# Altium integrated library Texas Instruments Power Management PWM Controller.IntLib: 1227 symbols (part 18 of 49)
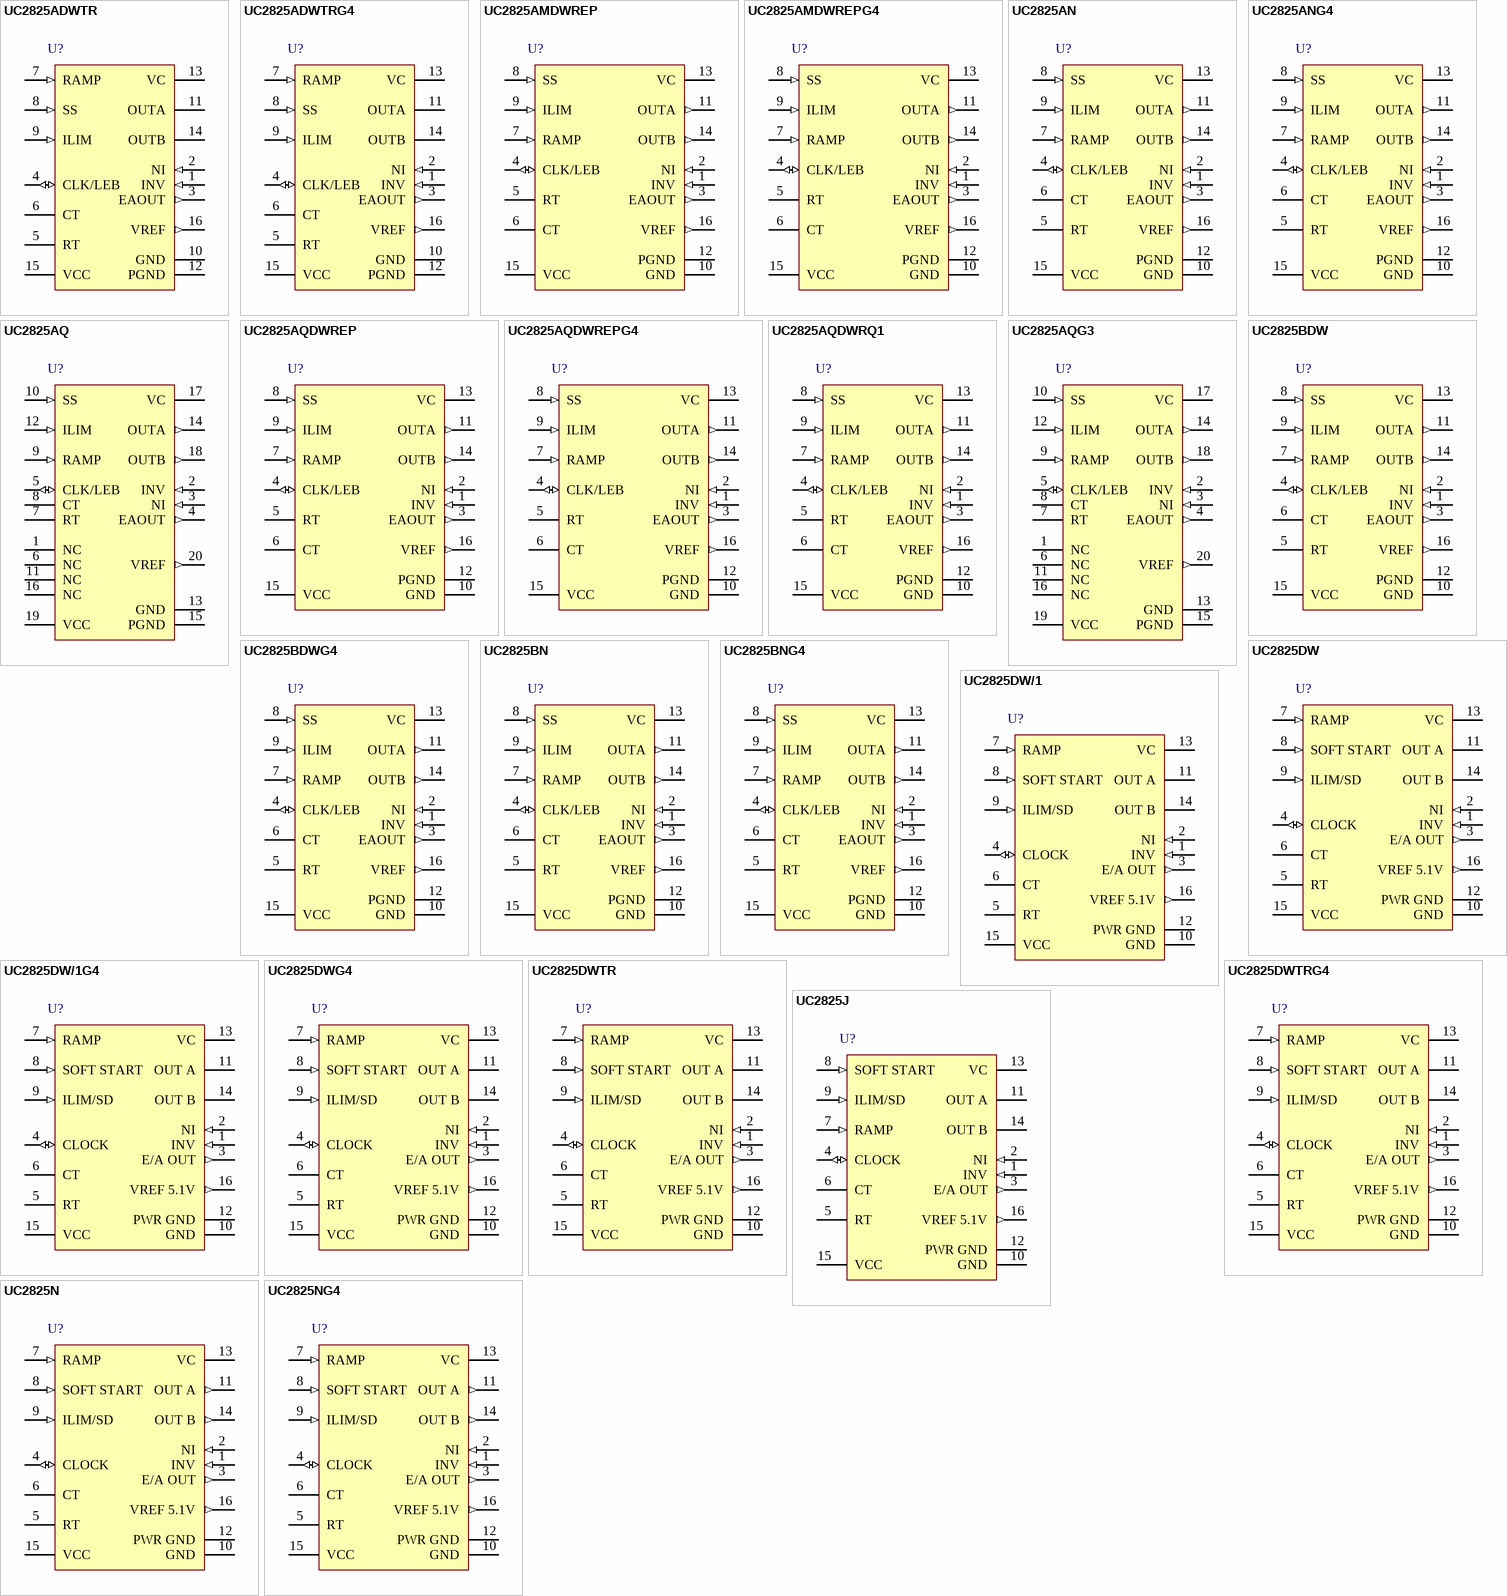
[diagram p60: symbols UC2825ADWTR to UC2825NG4]

## UC2825AN
designator U?
High-Speed PWM Controller with Current Control, 50 % Duty Cycle, -40 to +85 degC, 16-pin PDIP (N), Green (RoHS & no Sb/Br); PartNumber: UC2825AN; Manufacturer: Texas Instruments; Duty Cycle(Max)(%): 50; Frequency(Max)(kHz): 1000; Rating: Catalog; Regulated Outputs(#): 2; Topology: Boost, Flyback, Forward, Full-Bridge, Half-Bridge, Push-Pull; UVLO Thresholds On/Off(V): 16/10; DatasheetVersion: SLUS334E; PackageVersion: revE, Dec-2002; PackageReference: N16; PackageDescription: 16-Pin Plastic Dual-In-Line Package, Row Spacing 7.62 mm, Pitch 2.54 mm; Supplier 1: Digi-Key; Supplier Part Number 1: 296-11168-5-ND; Supplier 2: Newark; Supplier Part Number 2: 24C6758; Supplier 3: Mouser; Supplier Part Number 3: 595-UC2825AN; Control Method: Current; Eco-Plan: Green (RoHS & no Sb/Br); SubFamily: PWM Controller; Mounting Technology: Through Hole; Code_JEDEC: MS-001*; ComponentLink1Description: Datasheet; ComponentLink1URL: http://www.ti.com/general/docs/lit/getliterature.tsp?genericPartNumber=UC2825A&fileType=pdf
footprint N16 (DIP, 16-Leads, Row Spacing 7.62mm, Pitch 2.54mm, Body 19.3x6.4mm)
pins: 1 INV (in) "Inverting input to the error amplifier", 2 NI (in) "Non-inverting input to the error amplifier", 3 EAOUT (out) "Output of the error amplifier for compensation", 4 CLK/LEB (io) "Output of the internal oscillator", 5 RT "Timing resistor connection pin for oscillator frequency programming", 6 CT "Timing capacitor connection pin for oscillator frequency programming. The timing capacitor should be connected to the device ground using minimal trace length.", 7 RAMP (in) "Non-inverting input to the PWM comparator with 1.25-V internal input offset. In voltage mode operation, this serves as the input voltage feed-forward function by using the CT ramp. In peak current mode operation, this serves (See Datasheet)", 8 SS (in) "Soft-start input pin which also doubles as the maximum duty cycle clamp.", 9 ILIM (in) "Input to the current limit comparator", 10 GND (power) "Analog ground return pin", 11 OUTA (out) "High current totem pole output A of the on-chip drive stage.", 12 PGND (power) "Ground return pin for the output driver stage", 13 VC (power) "Power supply pin for the output stage. This pin should be bypassed with a 0.1-uF monolithic ceramic low ESL capacitor with minimal trace lengths.", 14 OUTB (out) "High current totem pole output B of the on-chip drive stage.", 15 VCC (power) "Power supply pin for the device. This pin should be bypassed with a 0.1-uF monolithic ceramic low ESL capacitor with minimal trace lengths", 16 VREF (out) "5.1-V reference. For stability, the reference should be bypassed with a 0.1-uF monolithic ceramic low ESL capacitor and minimal trace length to the ground plane."

## UC2825ANG4
designator U?
High-Speed PWM Controller with Current Control, 50 % Duty Cycle, -40 to +85 degC, 16-pin PDIP (N), Green (RoHS & no Sb/Br); PartNumber: UC2825ANG4; Manufacturer: Texas Instruments; Duty Cycle(Max)(%): 50; Frequency(Max)(kHz): 1000; Rating: Catalog; Regulated Outputs(#): 2; Topology: Boost, Flyback, Forward, Full-Bridge, Half-Bridge, Push-Pull; UVLO Thresholds On/Off(V): 16/10; DatasheetVersion: SLUS334E; PackageVersion: revE, Dec-2002; PackageReference: N16; PackageDescription: 16-Pin Plastic Dual-In-Line Package, Row Spacing 7.62 mm, Pitch 2.54 mm; Supplier 1: Digi-Key; Supplier Part Number 1: UC2825ANG4-ND; Supplier 2: Farnell; Supplier Part Number 2: 1234941; Supplier 3: Newark; Supplier Part Number 3: 13M3367; Supplier 4: Newark; Supplier Part Number 4: 67K8815; Supplier 5: Mouser; Supplier Part Number 5: 595-UC2825ANG4; Control Method: Current; Eco-Plan: Green (RoHS & no Sb/Br); SubFamily: PWM Controller; Mounting Technology: Through Hole; Code_JEDEC: MS-001*; ComponentLink1Description: Datasheet; ComponentLink1URL: http://www.ti.com/general/docs/lit/getliterature.tsp?genericPartNumber=UC2825A&fileType=pdf
footprint N16 (DIP, 16-Leads, Row Spacing 7.62mm, Pitch 2.54mm, Body 19.3x6.4mm)
pins: 1 INV (in) "Inverting input to the error amplifier", 2 NI (in) "Non-inverting input to the error amplifier", 3 EAOUT (out) "Output of the error amplifier for compensation", 4 CLK/LEB (io) "Output of the internal oscillator", 5 RT "Timing resistor connection pin for oscillator frequency programming", 6 CT "Timing capacitor connection pin for oscillator frequency programming. The timing capacitor should be connected to the device ground using minimal trace length.", 7 RAMP (in) "Non-inverting input to the PWM comparator with 1.25-V internal input offset. In voltage mode operation, this serves as the input voltage feed-forward function by using the CT ramp. In peak current mode operation, this serves (See Datasheet)", 8 SS (in) "Soft-start input pin which also doubles as the maximum duty cycle clamp.", 9 ILIM (in) "Input to the current limit comparator", 10 GND (power) "Analog ground return pin", 11 OUTA (out) "High current totem pole output A of the on-chip drive stage.", 12 PGND (power) "Ground return pin for the output driver stage", 13 VC (power) "Power supply pin for the output stage. This pin should be bypassed with a 0.1-uF monolithic ceramic low ESL capacitor with minimal trace lengths.", 14 OUTB (out) "High current totem pole output B of the on-chip drive stage.", 15 VCC (power) "Power supply pin for the device. This pin should be bypassed with a 0.1-uF monolithic ceramic low ESL capacitor with minimal trace lengths", 16 VREF (out) "5.1-V reference. For stability, the reference should be bypassed with a 0.1-uF monolithic ceramic low ESL capacitor and minimal trace length to the ground plane."

## UC2825AQ
designator U?
High-Speed PWM Controller with Current Control, 50 % Duty Cycle, -40 to +85 degC, 20-pin PLCC (FN), Green (RoHS & no Sb/Br); PartNumber: UC2825AQ; Manufacturer: Texas Instruments; Duty Cycle(Max)(%): 50; Frequency(Max)(kHz): 1000; Rating: Catalog; Regulated Outputs(#): 2; Topology: Boost, Flyback, Forward, Full-Bridge, Half-Bridge, Push-Pull; UVLO Thresholds On/Off(V): 16/10; DatasheetVersion: SLUS334E; PackageVersion: revB, Mar-1995; PackageReference: FN20; PackageDescription: 20-Pin Plastic Leaded Chip Carrier, 1.27 mm Pitch; Supplier 1: Digi-Key; Supplier Part Number 1: UC2825AQ-ND; Supplier 2: Newark; Supplier Part Number 2: 77C2906; Supplier 3: Mouser; Supplier Part Number 3: 595-UC2825AQ; Control Method: Current; Eco-Plan: Green (RoHS & no Sb/Br); SubFamily: PWM Controller; Mounting Technology: Surface Mount; Code_JEDEC: MS-018; ComponentLink1Description: Datasheet; ComponentLink1URL: http://www.ti.com/general/docs/lit/getliterature.tsp?genericPartNumber=UC2825A&fileType=pdf
footprint FN20_N (Leaded Chip Carrier, 20-Leads, Body 9x9mm, Pitch 1.27mm, IPC Medium Density)
footprint FN20_L (Leaded Chip Carrier, 20-Leads, Body 9x9mm, Pitch 1.27mm, IPC High Density)
footprint FN20_M (Leaded Chip Carrier, 20-Leads, Body 9x9mm, Pitch 1.27mm, IPC Low Density)
pins: 1 NC "No connection", 2 INV (in) "Inverting input to the error amplifier", 3 NI (in) "Non-inverting input to the error amplifier", 4 EAOUT (out) "Output of the error amplifier for compensation", 5 CLK/LEB (io) "Output of the internal oscillator", 6 NC "No connection", 7 RT "Timing resistor connection pin for oscillator frequency programming", 8 CT "Timing capacitor connection pin for oscillator frequency programming. The timing capacitor should be connected to the device ground using minimal trace length.", 9 RAMP (in) "Non-inverting input to the PWM comparator with 1.25-V internal input offset. In voltage mode operation, this serves as the input voltage feed-forward function by using the CT ramp. In peak current mode operation, this serves (See Datasheet)", 10 SS (in) "Soft-start input pin which also doubles as the maximum duty cycle clamp.", 11 NC "No connection", 12 ILIM (in) "Input to the current limit comparator", 13 GND (power) "Analog ground return pin", 14 OUTA (out) "High current totem pole output A of the on-chip drive stage.", 15 PGND (power) "Ground return pin for the output driver stage.", 16 NC "No connection", 17 VC (power) "Power supply pin for the output stage. This pin should be bypassed with a 0.1-uF monolithic ceramic low ESL capacitor with minimal trace lengths.", 18 OUTB (out) "High current totem pole output B of the on-chip drive stage.", 19 VCC (power) "Power supply pin for the device. This pin should be bypassed with a 0.1-uF monolithic ceramic low ESL capacitor with minimal trace lengths", 20 VREF (out) "5.1-V reference. For stability, the reference should be bypassed with a 0.1-uF monolithic ceramic low ESL capacitor and minimal trace length to the ground plane."

## UC2825AQDWREP
designator U?
High-Speed PWM Controller with Control, -55 to +125 degC, 16-pin SOIC (DW), Green (RoHS & no Sb/Br); PartNumber: UC2825AQDWREP; Manufacturer: Texas Instruments; Frequency(Max)(kHz): 1000; Rating: HiRel Enhanced Product; UVLO Thresholds On/Off(V): 9.6; DatasheetVersion: SGLS305D; PackageVersion: revG, Jan-2011; PackageReference: DW16; PackageDescription: 16-Pin Small Outline Integrated Circuit, 10.3 x 7.5 mm, Pitch 1.27 mm Pitch; Supplier 1: Digi-Key; Supplier Part Number 1: 296-19565-2-ND; Supplier 2: Digi-Key; Supplier Part Number 2: 296-19565-1-ND; Supplier 3: Digi-Key; Supplier Part Number 3: 296-19565-6-ND; Supplier 4: Newark; Supplier Part Number 4: 46M1392; Supplier 5: Mouser; Supplier Part Number 5: 595-UC2825AQDWREP; Eco-Plan: Green (RoHS & no Sb/Br); SubFamily: PWM Controller; Mounting Technology: Surface Mount; Code_JEDEC: MS-013-AA; ComponentLink1Description: Datasheet; ComponentLink1URL: http://www.ti.com/general/docs/lit/getliterature.tsp?genericPartNumber=UC2825A-EP&fileType=pdf
footprint DW16_N (SOIC, 16-Leads, Body 10.3x7.5mm, Pitch 1.27mm, IPC Medium Density)
footprint DW16_L (SOIC, 16-Leads, Body 10.3x7.5mm, Pitch 1.27mm, IPC High Density)
footprint DW16_M (SOIC, 16-Leads, Body 10.3x7.5mm, Pitch 1.27mm, IPC Low Density)
pins: 1 INV (in) "Inverting input to the error amplifier", 2 NI (in) "Noninverting input to the error amplifier", 3 EAOUT (out) "Output of the error amplifier for compensation", 4 CLK/LEB (io) "Clock/leading-edge blanking. Output of the internal oscillator", 5 RT "Resistor timing. Timing resistor connection for oscillator frequency programming", 6 CT "Capacitor timing. Timing capacitor connection for oscillator frequency programming. The timing capacitor should be connected to the device ground using minimal trace length", 7 RAMP (in) "Noninverting input to the PWM comparator, with 1.25-V internal input offset. In voltage-mode operation, this serves as the input voltage feed-forward function by using the CT ramp.In peak current mode operation,this serves (See Datasheet)", 8 SS (in) "Soft-start. SS also doubles as the maximum duty cycle clamp", 9 ILIM (in) "Input to the current-limit comparator", 10 GND (power) "Analog ground return", 11 OUTA (out) "High-current totem-pole output A of the on-chip drive stage", 12 PGND (power) "Ground return for the output driver stage", 13 VC (power) "Power-supply for the output stage. This pin should be bypassed with a 0.1-uF monolithic ceramic low-ESL capacitor with minimal trace lengths", 14 OUTB (out) "High-current totem-pole output B of the on-chip drive stage", 15 VCC (power) "Power supply for the device. This pin should be bypassed with a 0.1-uF monolithic ceramic low-ESL capacitor with minimal trace lengths", 16 VREF (out) "5.1-V reference. For stability, the reference should be bypassed with a 0.1-uF monolithic ceramic low-ESL capacitor and minimal trace length to the ground plane"

## UC2825AQDWREPG4
designator U?
High-Speed PWM Controller with Control, -55 to +125 degC, 16-pin SOIC (DW), Green (RoHS & no Sb/Br); PartNumber: UC2825AQDWREPG4; Manufacturer: Texas Instruments; Frequency(Max)(kHz): 1000; Rating: HiRel Enhanced Product; UVLO Thresholds On/Off(V): 9.6; DatasheetVersion: SGLS305D; PackageVersion: revG, Jan-2011; PackageReference: DW16; PackageDescription: 16-Pin Small Outline Integrated Circuit, 10.3 x 7.5 mm, Pitch 1.27 mm Pitch; Supplier 1: Digi-Key; Supplier Part Number 1: UC2825AQDWREPG4-ND; Supplier 2: Newark; Supplier Part Number 2: 55R7751; Supplier 3: Mouser; Supplier Part Number 3: 595-UC2825AQDWREPG4; Eco-Plan: Green (RoHS & no Sb/Br); SubFamily: PWM Controller; Mounting Technology: Surface Mount; Code_JEDEC: MS-013-AA; ComponentLink1Description: Datasheet; ComponentLink1URL: http://www.ti.com/general/docs/lit/getliterature.tsp?genericPartNumber=UC2825A-EP&fileType=pdf
footprint DW16_N (SOIC, 16-Leads, Body 10.3x7.5mm, Pitch 1.27mm, IPC Medium Density)
footprint DW16_L (SOIC, 16-Leads, Body 10.3x7.5mm, Pitch 1.27mm, IPC High Density)
footprint DW16_M (SOIC, 16-Leads, Body 10.3x7.5mm, Pitch 1.27mm, IPC Low Density)
pins: 1 INV (in) "Inverting input to the error amplifier", 2 NI (in) "Noninverting input to the error amplifier", 3 EAOUT (out) "Output of the error amplifier for compensation", 4 CLK/LEB (io) "Clock/leading-edge blanking. Output of the internal oscillator", 5 RT "Resistor timing. Timing resistor connection for oscillator frequency programming", 6 CT "Capacitor timing. Timing capacitor connection for oscillator frequency programming. The timing capacitor should be connected to the device ground using minimal trace length", 7 RAMP (in) "Noninverting input to the PWM comparator, with 1.25-V internal input offset. In voltage-mode operation, this serves as the input voltage feed-forward function by using the CT ramp.In peak current mode operation,this serves (See Datasheet)", 8 SS (in) "Soft-start. SS also doubles as the maximum duty cycle clamp", 9 ILIM (in) "Input to the current-limit comparator", 10 GND (power) "Analog ground return", 11 OUTA (out) "High-current totem-pole output A of the on-chip drive stage", 12 PGND (power) "Ground return for the output driver stage", 13 VC (power) "Power-supply for the output stage. This pin should be bypassed with a 0.1-uF monolithic ceramic low-ESL capacitor with minimal trace lengths", 14 OUTB (out) "High-current totem-pole output B of the on-chip drive stage", 15 VCC (power) "Power supply for the device. This pin should be bypassed with a 0.1-uF monolithic ceramic low-ESL capacitor with minimal trace lengths", 16 VREF (out) "5.1-V reference. For stability, the reference should be bypassed with a 0.1-uF monolithic ceramic low-ESL capacitor and minimal trace length to the ground plane"

## UC2825AQDWRQ1
designator U?
Automotive Catalog High-Speed PWM Controller with Current Control, 50 % Duty Cycle, -40 to +125 degC, 16-pin SOIC (DW), Green (RoHS & no Sb/Br); PartNumber: UC2825AQDWRQ1; Manufacturer: Texas Instruments; Duty Cycle(Max)(%): 50; Frequency(Max)(kHz): 1000; Regulated Outputs(#): 2; Topology: Boost, Flyback, Forward, Full-Bridge, Half-Bridge, Push-Pull; UVLO Thresholds On/Off(V): 9.2/8.4; DatasheetVersion: SLUS781; PackageVersion: revG, Jan-2011; PackageReference: DW16; PackageDescription: 16-Pin Small Outline Integrated Circuit, 10.3 x 7.5 mm, Pitch 1.27 mm Pitch; Supplier 1: Digi-Key; Supplier Part Number 1: 296-24109-2-ND; Supplier 2: Digi-Key; Supplier Part Number 2: 296-24109-1-ND; Supplier 3: Digi-Key; Supplier Part Number 3: 296-24109-6-ND; Supplier 4: Newark; Supplier Part Number 4: 73M8176; Supplier 5: Mouser; Supplier Part Number 5: 595-UC2825AQDWRQ1; Control Method: Current; Eco-Plan: Green (RoHS & no Sb/Br); Rating: Automotive; SubFamily: PWM Controller; Mounting Technology: Surface Mount; Code_JEDEC: MS-013-AA; ComponentLink1Description: Datasheet; ComponentLink1URL: http://www.ti.com/general/docs/lit/getliterature.tsp?genericPartNumber=UC2825A-Q1&fileType=pdf
footprint DW16_N (SOIC, 16-Leads, Body 10.3x7.5mm, Pitch 1.27mm, IPC Medium Density)
footprint DW16_L (SOIC, 16-Leads, Body 10.3x7.5mm, Pitch 1.27mm, IPC High Density)
footprint DW16_M (SOIC, 16-Leads, Body 10.3x7.5mm, Pitch 1.27mm, IPC Low Density)
pins: 1 INV (in) "Inverting input to the error amplifier", 2 NI (in) "Noninverting input to the error amplifier", 3 EAOUT (out) "Output of the error amplifier for compensation", 4 CLK/LEB (io) "Output of the internal oscillator", 5 RT "Timing resistor connection for oscillator frequency programming", 6 CT "Timing capacitor connection for oscillator frequency programming. The timing capacitor should be connected to the device ground using minimal trace length.", 7 RAMP (in) "Noninverting input to the PWM comparator with 1.25-V internal input offset. In voltage-mode operation, this serves as the input voltage feed-forward function by using the CT ramp. In peak current-mode operation, this serves (See Datasheet)", 8 SS (in) "Soft-start input and the maximum duty cycle clamp", 9 ILIM (in) "Input to the current limit comparator", 10 GND (power) "Analog ground return", 11 OUTA (out) "High-current totem-pole output A of the on-chip drive stage", 12 PGND (power) "Ground return for the output driver stage", 13 VC (power) "Power supply for the output stage. This pin should be bypassed with a 0.1-uF monolithic ceramic low ESL capacitor with minimal trace lengths.", 14 OUTB (out) "High-current totem-pole output B of the on-chip drive stage", 15 VCC (power) "Power supply for the device. This pin should be bypassed with a 0.1-uF monolithic ceramic low ESL capacitor with minimal trace lengths", 16 VREF (out) "5.1-V reference. For stability, the reference should be bypassed with a 0.1-uF monolithic ceramic low ESL capacitor and minimal trace length to the ground plane."

## UC2825AQG3
designator U?
High-Speed PWM Controller with Current Control, 50 % Duty Cycle, -40 to +85 degC, 20-pin PLCC (FN), Green (RoHS & no Sb/Br); PartNumber: UC2825AQG3; Manufacturer: Texas Instruments; Duty Cycle(Max)(%): 50; Frequency(Max)(kHz): 1000; Rating: Catalog; Regulated Outputs(#): 2; Topology: Boost, Flyback, Forward, Full-Bridge, Half-Bridge, Push-Pull; UVLO Thresholds On/Off(V): 16/10; DatasheetVersion: SLUS334E; PackageVersion: revB, Mar-1995; PackageReference: FN20; PackageDescription: 20-Pin Plastic Leaded Chip Carrier, 1.27 mm Pitch; Supplier 1: Digi-Key; Supplier Part Number 1: UC2825AQG3-ND; Supplier 2: Newark; Supplier Part Number 2: 81K4514; Supplier 3: Mouser; Supplier Part Number 3: 595-UC2825AQG3; Control Method: Current; Eco-Plan: Green (RoHS & no Sb/Br); SubFamily: PWM Controller; Mounting Technology: Surface Mount; Code_JEDEC: MS-018; ComponentLink1Description: Datasheet; ComponentLink1URL: http://www.ti.com/general/docs/lit/getliterature.tsp?genericPartNumber=UC2825A&fileType=pdf
footprint FN20_N (Leaded Chip Carrier, 20-Leads, Body 9x9mm, Pitch 1.27mm, IPC Medium Density)
footprint FN20_L (Leaded Chip Carrier, 20-Leads, Body 9x9mm, Pitch 1.27mm, IPC High Density)
footprint FN20_M (Leaded Chip Carrier, 20-Leads, Body 9x9mm, Pitch 1.27mm, IPC Low Density)
pins: 1 NC "No connection", 2 INV (in) "Inverting input to the error amplifier", 3 NI (in) "Non-inverting input to the error amplifier", 4 EAOUT (out) "Output of the error amplifier for compensation", 5 CLK/LEB (io) "Output of the internal oscillator", 6 NC "No connection", 7 RT "Timing resistor connection pin for oscillator frequency programming", 8 CT "Timing capacitor connection pin for oscillator frequency programming. The timing capacitor should be connected to the device ground using minimal trace length.", 9 RAMP (in) "Non-inverting input to the PWM comparator with 1.25-V internal input offset. In voltage mode operation, this serves as the input voltage feed-forward function by using the CT ramp. In peak current mode operation, this serves (See Datasheet)", 10 SS (in) "Soft-start input pin which also doubles as the maximum duty cycle clamp.", 11 NC "No connection", 12 ILIM (in) "Input to the current limit comparator", 13 GND (power) "Analog ground return pin", 14 OUTA (out) "High current totem pole output A of the on-chip drive stage.", 15 PGND (power) "Ground return pin for the output driver stage.", 16 NC "No connection", 17 VC (power) "Power supply pin for the output stage. This pin should be bypassed with a 0.1-uF monolithic ceramic low ESL capacitor with minimal trace lengths.", 18 OUTB (out) "High current totem pole output B of the on-chip drive stage.", 19 VCC (power) "Power supply pin for the device. This pin should be bypassed with a 0.1-uF monolithic ceramic low ESL capacitor with minimal trace lengths", 20 VREF (out) "5.1-V reference. For stability, the reference should be bypassed with a 0.1-uF monolithic ceramic low ESL capacitor and minimal trace length to the ground plane."

## UC2825BDW
designator U?
High-Speed PWM Controller with Current Control, 50 % Duty Cycle, -40 to +85 degC, 16-pin SOIC (DW), Green (RoHS & no Sb/Br); PartNumber: UC2825BDW; Manufacturer: Texas Instruments; Duty Cycle(Max)(%): 50; Frequency(Max)(kHz): 1000; Rating: Military; Regulated Outputs(#): 2; Topology: Boost, Flyback, Forward, Full-Bridge, Half-Bridge, Push-Pull; UVLO Thresholds On/Off(V): 9.2/8.4; DatasheetVersion: SLUS334E; PackageVersion: revG, Jan-2011; PackageReference: DW16; PackageDescription: 16-Pin Small Outline Integrated Circuit, 10.3 x 7.5 mm, Pitch 1.27 mm Pitch; Supplier 1: Digi-Key; Supplier Part Number 1: 296-2491-5-ND; Supplier 2: Newark; Supplier Part Number 2: 77C2908; Supplier 3: Mouser; Supplier Part Number 3: 595-UC2825BDW; Control Method: Current; Eco-Plan: Green (RoHS & no Sb/Br); SubFamily: PWM Controller; Mounting Technology: Surface Mount; Code_JEDEC: MS-013-AA; ComponentLink1Description: Datasheet; ComponentLink1URL: http://www.ti.com/general/docs/lit/getliterature.tsp?genericPartNumber=UC2825B&fileType=pdf
footprint DW16_N (SOIC, 16-Leads, Body 10.3x7.5mm, Pitch 1.27mm, IPC Medium Density)
footprint DW16_L (SOIC, 16-Leads, Body 10.3x7.5mm, Pitch 1.27mm, IPC High Density)
footprint DW16_M (SOIC, 16-Leads, Body 10.3x7.5mm, Pitch 1.27mm, IPC Low Density)
pins: 1 INV (in) "Inverting input to the error amplifier.", 2 NI (in) "Non-inverting input to the error amplifier.", 3 EAOUT (out) "Output of the error amplifier for compensation.", 4 CLK/LEB (io) "Output of the internal oscillator.", 5 RT "Timing resistor connection pin for oscillator frequency programming.", 6 CT "Timing capacitor connection pin for oscillator frequency programming. The timing capacitor should be connected to the device ground using minimal trace length.", 7 RAMP (in) "Non-inverting input to the PWM comparator with 1.25-V internal input offset. In voltage mode operation, this serves as the input voltage feed-forward function by using the CT ramp. In peak current mode operation, this serves (See Datasheet)", 8 SS (in) "Soft-start input pin which also doubles as the maximum duty cycle clamp.", 9 ILIM (in) "Input to the current limit comparator.", 10 GND (power) "Analog ground return pin.", 11 OUTA (out) "High current totem pole output A of the on-chip drive stage.", 12 PGND (power) "Ground return pin for the output driver stage.", 13 VC (power) "Power supply pin for the output stage. This pin should be bypassed with a 0.1-uF monolithic ceramic low ESL capacitor with minimal trace lengths.", 14 OUTB (out) "High current totem pole output B of the on-chip drive stage.", 15 VCC (power) "Power supply pin for the device. This pin should be bypassed with a 0.1-uF monolithic ceramic low ESL capacitor with minimal trace lengths.", 16 VREF (out) "5.1-V reference. For stability, the reference should be bypassed with a 0.1-uF monolithic ceramic low ESL capacitor and minimal trace length to the ground plane."

## UC2825BDWG4
designator U?
High-Speed PWM Controller with Current Control, 50 % Duty Cycle, -40 to +85 degC, 16-pin SOIC (DW), Green (RoHS & no Sb/Br); PartNumber: UC2825BDWG4; Manufacturer: Texas Instruments; Duty Cycle(Max)(%): 50; Frequency(Max)(kHz): 1000; Rating: Military; Regulated Outputs(#): 2; Topology: Boost, Flyback, Forward, Full-Bridge, Half-Bridge, Push-Pull; UVLO Thresholds On/Off(V): 9.2/8.4; DatasheetVersion: SLUS334E; PackageVersion: revG, Jan-2011; PackageReference: DW16; PackageDescription: 16-Pin Small Outline Integrated Circuit, 10.3 x 7.5 mm, Pitch 1.27 mm Pitch; Supplier 1: Digi-Key; Supplier Part Number 1: UC2825BDWG4-ND; Supplier 2: Newark; Supplier Part Number 2: 73K9693; Supplier 3: Mouser; Supplier Part Number 3: 595-UC2825BDWG4; Control Method: Current; Eco-Plan: Green (RoHS & no Sb/Br); SubFamily: PWM Controller; Mounting Technology: Surface Mount; Code_JEDEC: MS-013-AA; ComponentLink1Description: Datasheet; ComponentLink1URL: http://www.ti.com/general/docs/lit/getliterature.tsp?genericPartNumber=UC2825B&fileType=pdf
footprint DW16_N (SOIC, 16-Leads, Body 10.3x7.5mm, Pitch 1.27mm, IPC Medium Density)
footprint DW16_L (SOIC, 16-Leads, Body 10.3x7.5mm, Pitch 1.27mm, IPC High Density)
footprint DW16_M (SOIC, 16-Leads, Body 10.3x7.5mm, Pitch 1.27mm, IPC Low Density)
pins: 1 INV (in) "Inverting input to the error amplifier.", 2 NI (in) "Non-inverting input to the error amplifier.", 3 EAOUT (out) "Output of the error amplifier for compensation.", 4 CLK/LEB (io) "Output of the internal oscillator.", 5 RT "Timing resistor connection pin for oscillator frequency programming.", 6 CT "Timing capacitor connection pin for oscillator frequency programming. The timing capacitor should be connected to the device ground using minimal trace length.", 7 RAMP (in) "Non-inverting input to the PWM comparator with 1.25-V internal input offset. In voltage mode operation, this serves as the input voltage feed-forward function by using the CT ramp. In peak current mode operation, this serves (See Datasheet)", 8 SS (in) "Soft-start input pin which also doubles as the maximum duty cycle clamp.", 9 ILIM (in) "Input to the current limit comparator.", 10 GND (power) "Analog ground return pin.", 11 OUTA (out) "High current totem pole output A of the on-chip drive stage.", 12 PGND (power) "Ground return pin for the output driver stage.", 13 VC (power) "Power supply pin for the output stage. This pin should be bypassed with a 0.1-uF monolithic ceramic low ESL capacitor with minimal trace lengths.", 14 OUTB (out) "High current totem pole output B of the on-chip drive stage.", 15 VCC (power) "Power supply pin for the device. This pin should be bypassed with a 0.1-uF monolithic ceramic low ESL capacitor with minimal trace lengths.", 16 VREF (out) "5.1-V reference. For stability, the reference should be bypassed with a 0.1-uF monolithic ceramic low ESL capacitor and minimal trace length to the ground plane."

## UC2825BN
designator U?
High-Speed PWM Controller with Current Control, 50 % Duty Cycle, -40 to +85 degC, 16-pin PDIP (N), Green (RoHS & no Sb/Br); PartNumber: UC2825BN; Manufacturer: Texas Instruments; Duty Cycle(Max)(%): 50; Frequency(Max)(kHz): 1000; Rating: Military; Regulated Outputs(#): 2; Topology: Boost, Flyback, Forward, Full-Bridge, Half-Bridge, Push-Pull; UVLO Thresholds On/Off(V): 9.2/8.4; DatasheetVersion: SLUS334E; PackageVersion: revE, Dec-2002; PackageReference: N16; PackageDescription: 16-Pin Plastic Dual-In-Line Package, Row Spacing 7.62 mm, Pitch 2.54 mm; Supplier 1: Digi-Key; Supplier Part Number 1: 296-11169-5-ND; Supplier 2: Newark; Supplier Part Number 2: 77C2910; Supplier 3: Mouser; Supplier Part Number 3: 595-UC2825BN; Control Method: Current; Eco-Plan: Green (RoHS & no Sb/Br); SubFamily: PWM Controller; Mounting Technology: Through Hole; Code_JEDEC: MS-001*; ComponentLink1Description: Datasheet; ComponentLink1URL: http://www.ti.com/general/docs/lit/getliterature.tsp?genericPartNumber=UC2825B&fileType=pdf
footprint N16 (DIP, 16-Leads, Row Spacing 7.62mm, Pitch 2.54mm, Body 19.3x6.4mm)
pins: 1 INV (in) "Inverting input to the error amplifier", 2 NI (in) "Non-inverting input to the error amplifier", 3 EAOUT (out) "Output of the error amplifier for compensation", 4 CLK/LEB (io) "Output of the internal oscillator", 5 RT "Timing resistor connection pin for oscillator frequency programming", 6 CT "Timing capacitor connection pin for oscillator frequency programming. The timing capacitor should be connected to the device ground using minimal trace length.", 7 RAMP (in) "Non-inverting input to the PWM comparator with 1.25-V internal input offset. In voltage mode operation, this serves as the input voltage feed-forward function by using the CT ramp. In peak current mode operation, this serves (See Datasheet)", 8 SS (in) "Soft-start input pin which also doubles as the maximum duty cycle clamp.", 9 ILIM (in) "Input to the current limit comparator", 10 GND (power) "Analog ground return pin", 11 OUTA (out) "High current totem pole output A of the on-chip drive stage.", 12 PGND (power) "Ground return pin for the output driver stage", 13 VC (power) "Power supply pin for the output stage. This pin should be bypassed with a 0.1-uF monolithic ceramic low ESL capacitor with minimal trace lengths.", 14 OUTB (out) "High current totem pole output B of the on-chip drive stage.", 15 VCC (power) "Power supply pin for the device. This pin should be bypassed with a 0.1-uF monolithic ceramic low ESL capacitor with minimal trace lengths", 16 VREF (out) "5.1-V reference. For stability, the reference should be bypassed with a 0.1-uF monolithic ceramic low ESL capacitor and minimal trace length to the ground plane."

## UC2825BNG4
designator U?
High-Speed PWM Controller with Current Control, 50 % Duty Cycle, -40 to +85 degC, 16-pin PDIP (N), Green (RoHS & no Sb/Br); PartNumber: UC2825BNG4; Manufacturer: Texas Instruments; Duty Cycle(Max)(%): 50; Frequency(Max)(kHz): 1000; Rating: Military; Regulated Outputs(#): 2; Topology: Boost, Flyback, Forward, Full-Bridge, Half-Bridge, Push-Pull; UVLO Thresholds On/Off(V): 9.2/8.4; DatasheetVersion: SLUS334E; PackageVersion: revE, Dec-2002; PackageReference: N16; PackageDescription: 16-Pin Plastic Dual-In-Line Package, Row Spacing 7.62 mm, Pitch 2.54 mm; Supplier 1: Digi-Key; Supplier Part Number 1: UC2825BNG4-ND; Supplier 2: Newark; Supplier Part Number 2: 58K7103; Supplier 3: Mouser; Supplier Part Number 3: 595-UC2825BNG4; Control Method: Current; Eco-Plan: Green (RoHS & no Sb/Br); SubFamily: PWM Controller; Mounting Technology: Through Hole; Code_JEDEC: MS-001*; ComponentLink1Description: Datasheet; ComponentLink1URL: http://www.ti.com/general/docs/lit/getliterature.tsp?genericPartNumber=UC2825B&fileType=pdf
footprint N16 (DIP, 16-Leads, Row Spacing 7.62mm, Pitch 2.54mm, Body 19.3x6.4mm)
pins: 1 INV (in) "Inverting input to the error amplifier", 2 NI (in) "Non-inverting input to the error amplifier", 3 EAOUT (out) "Output of the error amplifier for compensation", 4 CLK/LEB (io) "Output of the internal oscillator", 5 RT "Timing resistor connection pin for oscillator frequency programming", 6 CT "Timing capacitor connection pin for oscillator frequency programming. The timing capacitor should be connected to the device ground using minimal trace length.", 7 RAMP (in) "Non-inverting input to the PWM comparator with 1.25-V internal input offset. In voltage mode operation, this serves as the input voltage feed-forward function by using the CT ramp. In peak current mode operation, this serves (See Datasheet)", 8 SS (in) "Soft-start input pin which also doubles as the maximum duty cycle clamp.", 9 ILIM (in) "Input to the current limit comparator", 10 GND (power) "Analog ground return pin", 11 OUTA (out) "High current totem pole output A of the on-chip drive stage.", 12 PGND (power) "Ground return pin for the output driver stage", 13 VC (power) "Power supply pin for the output stage. This pin should be bypassed with a 0.1-uF monolithic ceramic low ESL capacitor with minimal trace lengths.", 14 OUTB (out) "High current totem pole output B of the on-chip drive stage.", 15 VCC (power) "Power supply pin for the device. This pin should be bypassed with a 0.1-uF monolithic ceramic low ESL capacitor with minimal trace lengths", 16 VREF (out) "5.1-V reference. For stability, the reference should be bypassed with a 0.1-uF monolithic ceramic low ESL capacitor and minimal trace length to the ground plane."

## UC2825DW
designator U?
High Speed PWM Controller with Current Control, 50 % Duty Cycle, -40 to +85 degC, 16-pin SOIC (DW), Green (RoHS & no Sb/Br); PartNumber: UC2825DW; Manufacturer: Texas Instruments; Duty Cycle(Max)(%): 50; Frequency(Max)(kHz): 1000; Rating: Catalog; Regulated Outputs(#): 2; Topology: Boost, Flyback, Forward, Full-Bridge, Half-Bridge, Push-Pull; UVLO Thresholds On/Off(V): 9.2/8.4; DatasheetVersion: SLUS235A; PackageVersion: revG, Jan-2011; PackageReference: DW16; PackageDescription: 16-Pin Small Outline Integrated Circuit, 10.3 x 7.5 mm, Pitch 1.27 mm Pitch; Supplier 1: Digi-Key; Supplier Part Number 1: 296-11170-5-ND; Supplier 2: Farnell; Supplier Part Number 2: 4395335; Supplier 3: Newark; Supplier Part Number 3: 77C2911; Supplier 4: Mouser; Supplier Part Number 4: 595-UC2825DW; Control Method: Current; Eco-Plan: Green (RoHS & no Sb/Br); SubFamily: PWM Controller; Mounting Technology: Surface Mount; Code_JEDEC: MS-013-AA; ComponentLink1Description: Datasheet; ComponentLink1URL: http://www.ti.com/general/docs/lit/getliterature.tsp?genericPartNumber=UC2825&fileType=pdf
footprint DW16_N (SOIC, 16-Leads, Body 10.3x7.5mm, Pitch 1.27mm, IPC Medium Density)
footprint DW16_L (SOIC, 16-Leads, Body 10.3x7.5mm, Pitch 1.27mm, IPC High Density)
footprint DW16_M (SOIC, 16-Leads, Body 10.3x7.5mm, Pitch 1.27mm, IPC Low Density)
pins: 1 INV (in), 2 NI (in), 3 E/A OUT (out), 4 CLOCK (io), 5 RT, 6 CT, 7 RAMP (in), 8 SOFT START (in), 9 ILIM/SD (in), 10 GND (power), 11 OUT A (hiz), 12 PWR GND (power), 13 VC (power), 14 OUT B (hiz), 15 VCC (power), 16 VREF 5.1V (out)

## UC2825DW/1
designator U?
High Speed PWM Controller with Current Control, 50 % Duty Cycle, -40 to +85 degC, 16-pin SOIC (DW), Green (RoHS & no Sb/Br); PartNumber: UC2825DW/1; Manufacturer: Texas Instruments; Duty Cycle(Max)(%): 50; Frequency(Max)(kHz): 1000; Rating: Catalog; Regulated Outputs(#): 2; Topology: Boost, Flyback, Forward, Full-Bridge, Half-Bridge, Push-Pull; UVLO Thresholds On/Off(V): 9.2/8.4; DatasheetVersion: SLUS235A; PackageVersion: revG, Jan-2011; PackageReference: DW16; PackageDescription: 16-Pin Small Outline Integrated Circuit, 10.3 x 7.5 mm, Pitch 1.27 mm Pitch; Supplier 1: Mouser; Supplier Part Number 1: N/A; Control Method: Current; Eco-Plan: Green (RoHS & no Sb/Br); SubFamily: PWM Controller; Mounting Technology: Surface Mount; Code_JEDEC: MS-013-AA; ComponentLink1Description: Datasheet; ComponentLink1URL: http://www.ti.com/general/docs/lit/getliterature.tsp?genericPartNumber=UC2825&fileType=pdf
footprint DW16_N (SOIC, 16-Leads, Body 10.3x7.5mm, Pitch 1.27mm, IPC Medium Density)
footprint DW16_L (SOIC, 16-Leads, Body 10.3x7.5mm, Pitch 1.27mm, IPC High Density)
footprint DW16_M (SOIC, 16-Leads, Body 10.3x7.5mm, Pitch 1.27mm, IPC Low Density)
pins: 1 INV (in), 2 NI (in), 3 E/A OUT (out), 4 CLOCK (io), 5 RT, 6 CT, 7 RAMP (in), 8 SOFT START (in), 9 ILIM/SD (in), 10 GND (power), 11 OUT A (hiz), 12 PWR GND (power), 13 VC (power), 14 OUT B (hiz), 15 VCC (power), 16 VREF 5.1V (out)

## UC2825DW/1G4
designator U?
High Speed PWM Controller with Current Control, 50 % Duty Cycle, -40 to +85 degC, 16-pin SOIC (DW), Green (RoHS & no Sb/Br); PartNumber: UC2825DW/1G4; Manufacturer: Texas Instruments; Duty Cycle(Max)(%): 50; Frequency(Max)(kHz): 1000; Rating: Catalog; Regulated Outputs(#): 2; Topology: Boost, Flyback, Forward, Full-Bridge, Half-Bridge, Push-Pull; UVLO Thresholds On/Off(V): 9.2/8.4; DatasheetVersion: SLUS235A; PackageVersion: revG, Jan-2011; PackageReference: DW16; PackageDescription: 16-Pin Small Outline Integrated Circuit, 10.3 x 7.5 mm, Pitch 1.27 mm Pitch; Supplier 1: Mouser; Supplier Part Number 1: N/A; Control Method: Current; Eco-Plan: Green (RoHS & no Sb/Br); SubFamily: PWM Controller; Mounting Technology: Surface Mount; Code_JEDEC: MS-013-AA; ComponentLink1Description: Datasheet; ComponentLink1URL: http://www.ti.com/general/docs/lit/getliterature.tsp?genericPartNumber=UC2825&fileType=pdf
footprint DW16_N (SOIC, 16-Leads, Body 10.3x7.5mm, Pitch 1.27mm, IPC Medium Density)
footprint DW16_L (SOIC, 16-Leads, Body 10.3x7.5mm, Pitch 1.27mm, IPC High Density)
footprint DW16_M (SOIC, 16-Leads, Body 10.3x7.5mm, Pitch 1.27mm, IPC Low Density)
pins: 1 INV (in), 2 NI (in), 3 E/A OUT (out), 4 CLOCK (io), 5 RT, 6 CT, 7 RAMP (in), 8 SOFT START (in), 9 ILIM/SD (in), 10 GND (power), 11 OUT A (hiz), 12 PWR GND (power), 13 VC (power), 14 OUT B (hiz), 15 VCC (power), 16 VREF 5.1V (out)

## UC2825DWG4
designator U?
High Speed PWM Controller with Current Control, 50 % Duty Cycle, -40 to +85 degC, 16-pin SOIC (DW), Green (RoHS & no Sb/Br); PartNumber: UC2825DWG4; Manufacturer: Texas Instruments; Duty Cycle(Max)(%): 50; Frequency(Max)(kHz): 1000; Rating: Catalog; Regulated Outputs(#): 2; Topology: Boost, Flyback, Forward, Full-Bridge, Half-Bridge, Push-Pull; UVLO Thresholds On/Off(V): 9.2/8.4; DatasheetVersion: SLUS235A; PackageVersion: revG, Jan-2011; PackageReference: DW16; PackageDescription: 16-Pin Small Outline Integrated Circuit, 10.3 x 7.5 mm, Pitch 1.27 mm Pitch; Supplier 1: Digi-Key; Supplier Part Number 1: UC2825DWG4-ND; Supplier 2: Farnell; Supplier Part Number 2: 1234677; Supplier 3: Newark; Supplier Part Number 3: 13M3368; Supplier 4: Newark; Supplier Part Number 4: 80K3529; Supplier 5: Mouser; Supplier Part Number 5: 595-UC2825DWG4; Control Method: Current; Eco-Plan: Green (RoHS & no Sb/Br); SubFamily: PWM Controller; Mounting Technology: Surface Mount; Code_JEDEC: MS-013-AA; ComponentLink1Description: Datasheet; ComponentLink1URL: http://www.ti.com/general/docs/lit/getliterature.tsp?genericPartNumber=UC2825&fileType=pdf
footprint DW16_N (SOIC, 16-Leads, Body 10.3x7.5mm, Pitch 1.27mm, IPC Medium Density)
footprint DW16_L (SOIC, 16-Leads, Body 10.3x7.5mm, Pitch 1.27mm, IPC High Density)
footprint DW16_M (SOIC, 16-Leads, Body 10.3x7.5mm, Pitch 1.27mm, IPC Low Density)
pins: 1 INV (in), 2 NI (in), 3 E/A OUT (out), 4 CLOCK (io), 5 RT, 6 CT, 7 RAMP (in), 8 SOFT START (in), 9 ILIM/SD (in), 10 GND (power), 11 OUT A (hiz), 12 PWR GND (power), 13 VC (power), 14 OUT B (hiz), 15 VCC (power), 16 VREF 5.1V (out)

## UC2825DWTR
designator U?
High Speed PWM Controller with Current Control, 50 % Duty Cycle, -40 to +85 degC, 16-pin SOIC (DW), Green (RoHS & no Sb/Br); PartNumber: UC2825DWTR; Manufacturer: Texas Instruments; Duty Cycle(Max)(%): 50; Frequency(Max)(kHz): 1000; Rating: Catalog; Regulated Outputs(#): 2; Topology: Boost, Flyback, Forward, Full-Bridge, Half-Bridge, Push-Pull; UVLO Thresholds On/Off(V): 9.2/8.4; DatasheetVersion: SLUS235A; PackageVersion: revG, Jan-2011; PackageReference: DW16; PackageDescription: 16-Pin Small Outline Integrated Circuit, 10.3 x 7.5 mm, Pitch 1.27 mm Pitch; Supplier 1: Digi-Key; Supplier Part Number 1: UC2825DWTR-ND; Supplier 2: Newark; Supplier Part Number 2: 77C2912; Supplier 3: Mouser; Supplier Part Number 3: 595-UC2825DWTR; Control Method: Current; Eco-Plan: Green (RoHS & no Sb/Br); SubFamily: PWM Controller; Mounting Technology: Surface Mount; Code_JEDEC: MS-013-AA; ComponentLink1Description: Datasheet; ComponentLink1URL: http://www.ti.com/general/docs/lit/getliterature.tsp?genericPartNumber=UC2825&fileType=pdf
footprint DW16_N (SOIC, 16-Leads, Body 10.3x7.5mm, Pitch 1.27mm, IPC Medium Density)
footprint DW16_L (SOIC, 16-Leads, Body 10.3x7.5mm, Pitch 1.27mm, IPC High Density)
footprint DW16_M (SOIC, 16-Leads, Body 10.3x7.5mm, Pitch 1.27mm, IPC Low Density)
pins: 1 INV (in), 2 NI (in), 3 E/A OUT (out), 4 CLOCK (io), 5 RT, 6 CT, 7 RAMP (in), 8 SOFT START (in), 9 ILIM/SD (in), 10 GND (power), 11 OUT A (hiz), 12 PWR GND (power), 13 VC (power), 14 OUT B (hiz), 15 VCC (power), 16 VREF 5.1V (out)

## UC2825DWTRG4
designator U?
High Speed PWM Controller with Current Control, 50 % Duty Cycle, -40 to +85 degC, 16-pin SOIC (DW), Green (RoHS & no Sb/Br); PartNumber: UC2825DWTRG4; Manufacturer: Texas Instruments; Duty Cycle(Max)(%): 50; Frequency(Max)(kHz): 1000; Rating: Catalog; Regulated Outputs(#): 2; Topology: Boost, Flyback, Forward, Full-Bridge, Half-Bridge, Push-Pull; UVLO Thresholds On/Off(V): 9.2/8.4; DatasheetVersion: SLUS235A; PackageVersion: revG, Jan-2011; PackageReference: DW16; PackageDescription: 16-Pin Small Outline Integrated Circuit, 10.3 x 7.5 mm, Pitch 1.27 mm Pitch; Supplier 1: Digi-Key; Supplier Part Number 1: UC2825DWTRG4-ND; Supplier 2: Newark; Supplier Part Number 2: 28K5768; Supplier 3: Mouser; Supplier Part Number 3: 595-UC2825DWTRG4; Control Method: Current; Eco-Plan: Green (RoHS & no Sb/Br); SubFamily: PWM Controller; Mounting Technology: Surface Mount; Code_JEDEC: MS-013-AA; ComponentLink1Description: Datasheet; ComponentLink1URL: http://www.ti.com/general/docs/lit/getliterature.tsp?genericPartNumber=UC2825&fileType=pdf
footprint DW16_N (SOIC, 16-Leads, Body 10.3x7.5mm, Pitch 1.27mm, IPC Medium Density)
footprint DW16_L (SOIC, 16-Leads, Body 10.3x7.5mm, Pitch 1.27mm, IPC High Density)
footprint DW16_M (SOIC, 16-Leads, Body 10.3x7.5mm, Pitch 1.27mm, IPC Low Density)
pins: 1 INV (in), 2 NI (in), 3 E/A OUT (out), 4 CLOCK (io), 5 RT, 6 CT, 7 RAMP (in), 8 SOFT START (in), 9 ILIM/SD (in), 10 GND (power), 11 OUT A (hiz), 12 PWR GND (power), 13 VC (power), 14 OUT B (hiz), 15 VCC (power), 16 VREF 5.1V (out)

## UC2825J
designator U?
High Speed PWM Controller with Current Control, 50 % Duty Cycle, -40 to +85 degC, 16-pin CDIP (J); PartNumber: UC2825J; Manufacturer: Texas Instruments; Duty Cycle(Max)(%): 50; Eco-Plan: TBD; Frequency(Max)(kHz): 1000; Rating: Military; Regulated Outputs(#): 2; Topology: Boost, Flyback, Forward, Full-Bridge, Half-Bridge, Push-Pull; UVLO Thresholds On/Off(V): 9.2/8.4; DatasheetVersion: SLUS235A; PackageVersion: revF, Mar-2003; PackageReference: J16; PackageDescription: 16-Pin, Ceramic Dual In-Line Package, Row Spacing 7.62 mm, Pitch 2.54 mm; Control Method: Current; SubFamily: PWM Controller; Mounting Technology: Through Hole; ComponentLink1Description: Datasheet; ComponentLink1URL: http://www.ti.com/general/docs/lit/getliterature.tsp?genericPartNumber=UC2825M&fileType=pdf
footprint J16 (DIP, 16-Leads, Row Spacing 7.62mm, Pitch 2.54mm, Body 21.3x6.9mm)
pins: 1 INV (in), 2 NI (in), 3 E/A OUT (out), 4 CLOCK (io), 5 RT, 6 CT, 7 RAMP (in), 8 SOFT START (in), 9 ILIM/SD (in), 10 GND (power), 11 OUT A (hiz), 12 PWR GND (power), 13 VC (power), 14 OUT B (hiz), 15 VCC (power), 16 VREF 5.1V (out)

## UC2825N
designator U?
High-Speed PWM Controller with Current Control, 50 % Duty Cycle, -40 to +85 degC, 16-pin PDIP (N), Green (RoHS & no Sb/Br); PartNumber: UC2825N; Manufacturer: Texas Instruments; Duty Cycle(Max)(%): 50; Frequency(Max)(kHz): 1000; Rating: Catalog; Regulated Outputs(#): 2; Topology: Boost, Flyback, Forward, Full-Bridge, Half-Bridge, Push-Pull; UVLO Thresholds On/Off(V): 9.2/8.4; DatasheetVersion: SLUS235A; PackageVersion: revE, Dec-2002; PackageReference: N16; PackageDescription: 16-Pin Plastic Dual-In-Line Package, Row Spacing 7.62 mm, Pitch 2.54 mm; Supplier 1: Digi-Key; Supplier Part Number 1: 296-11171-5-ND; Supplier 2: Farnell; Supplier Part Number 2: 1470533; Supplier 3: Newark; Supplier Part Number 3: 74K4000; Supplier 4: Mouser; Supplier Part Number 4: 595-UC2825N; Control Method: Current; Eco-Plan: Green (RoHS & no Sb/Br); SubFamily: PWM Controller; Mounting Technology: Through Hole; Code_JEDEC: MS-001*; ComponentLink1Description: Datasheet; ComponentLink1URL: http://www.ti.com/general/docs/lit/getliterature.tsp?genericPartNumber=UC2825&fileType=pdf
footprint N16 (DIP, 16-Leads, Row Spacing 7.62mm, Pitch 2.54mm, Body 19.3x6.4mm)
pins: 1 INV (in), 2 NI (in), 3 E/A OUT (out), 4 CLOCK (io), 5 RT, 6 CT, 7 RAMP (in), 8 SOFT START (in), 9 ILIM/SD (in), 10 GND (power), 11 OUT A (out), 12 PWR GND (power), 13 VC (power), 14 OUT B (out), 15 VCC (power), 16 VREF 5.1V (out)

## UC2825NG4
designator U?
High-Speed PWM Controller with Current Control, 50 % Duty Cycle, -40 to +85 degC, 16-pin PDIP (N), Green (RoHS & no Sb/Br); PartNumber: UC2825NG4; Manufacturer: Texas Instruments; Duty Cycle(Max)(%): 50; Frequency(Max)(kHz): 1000; Rating: Catalog; Regulated Outputs(#): 2; Topology: Boost, Flyback, Forward, Full-Bridge, Half-Bridge, Push-Pull; UVLO Thresholds On/Off(V): 9.2/8.4; DatasheetVersion: SLUS235A; PackageVersion: revE, Dec-2002; PackageReference: N16; PackageDescription: 16-Pin Plastic Dual-In-Line Package, Row Spacing 7.62 mm, Pitch 2.54 mm; Supplier 1: Digi-Key; Supplier Part Number 1: UC2825NG4-ND; Supplier 2: Newark; Supplier Part Number 2: 71J8444; Supplier 3: Mouser; Supplier Part Number 3: 595-UC2825NG4; Control Method: Current; Eco-Plan: Green (RoHS & no Sb/Br); SubFamily: PWM Controller; Mounting Technology: Through Hole; Code_JEDEC: MS-001*; ComponentLink1Description: Datasheet; ComponentLink1URL: http://www.ti.com/general/docs/lit/getliterature.tsp?genericPartNumber=UC2825&fileType=pdf
footprint N16 (DIP, 16-Leads, Row Spacing 7.62mm, Pitch 2.54mm, Body 19.3x6.4mm)
pins: 1 INV (in), 2 NI (in), 3 E/A OUT (out), 4 CLOCK (io), 5 RT, 6 CT, 7 RAMP (in), 8 SOFT START (in), 9 ILIM/SD (in), 10 GND (power), 11 OUT A (out), 12 PWR GND (power), 13 VC (power), 14 OUT B (out), 15 VCC (power), 16 VREF 5.1V (out)

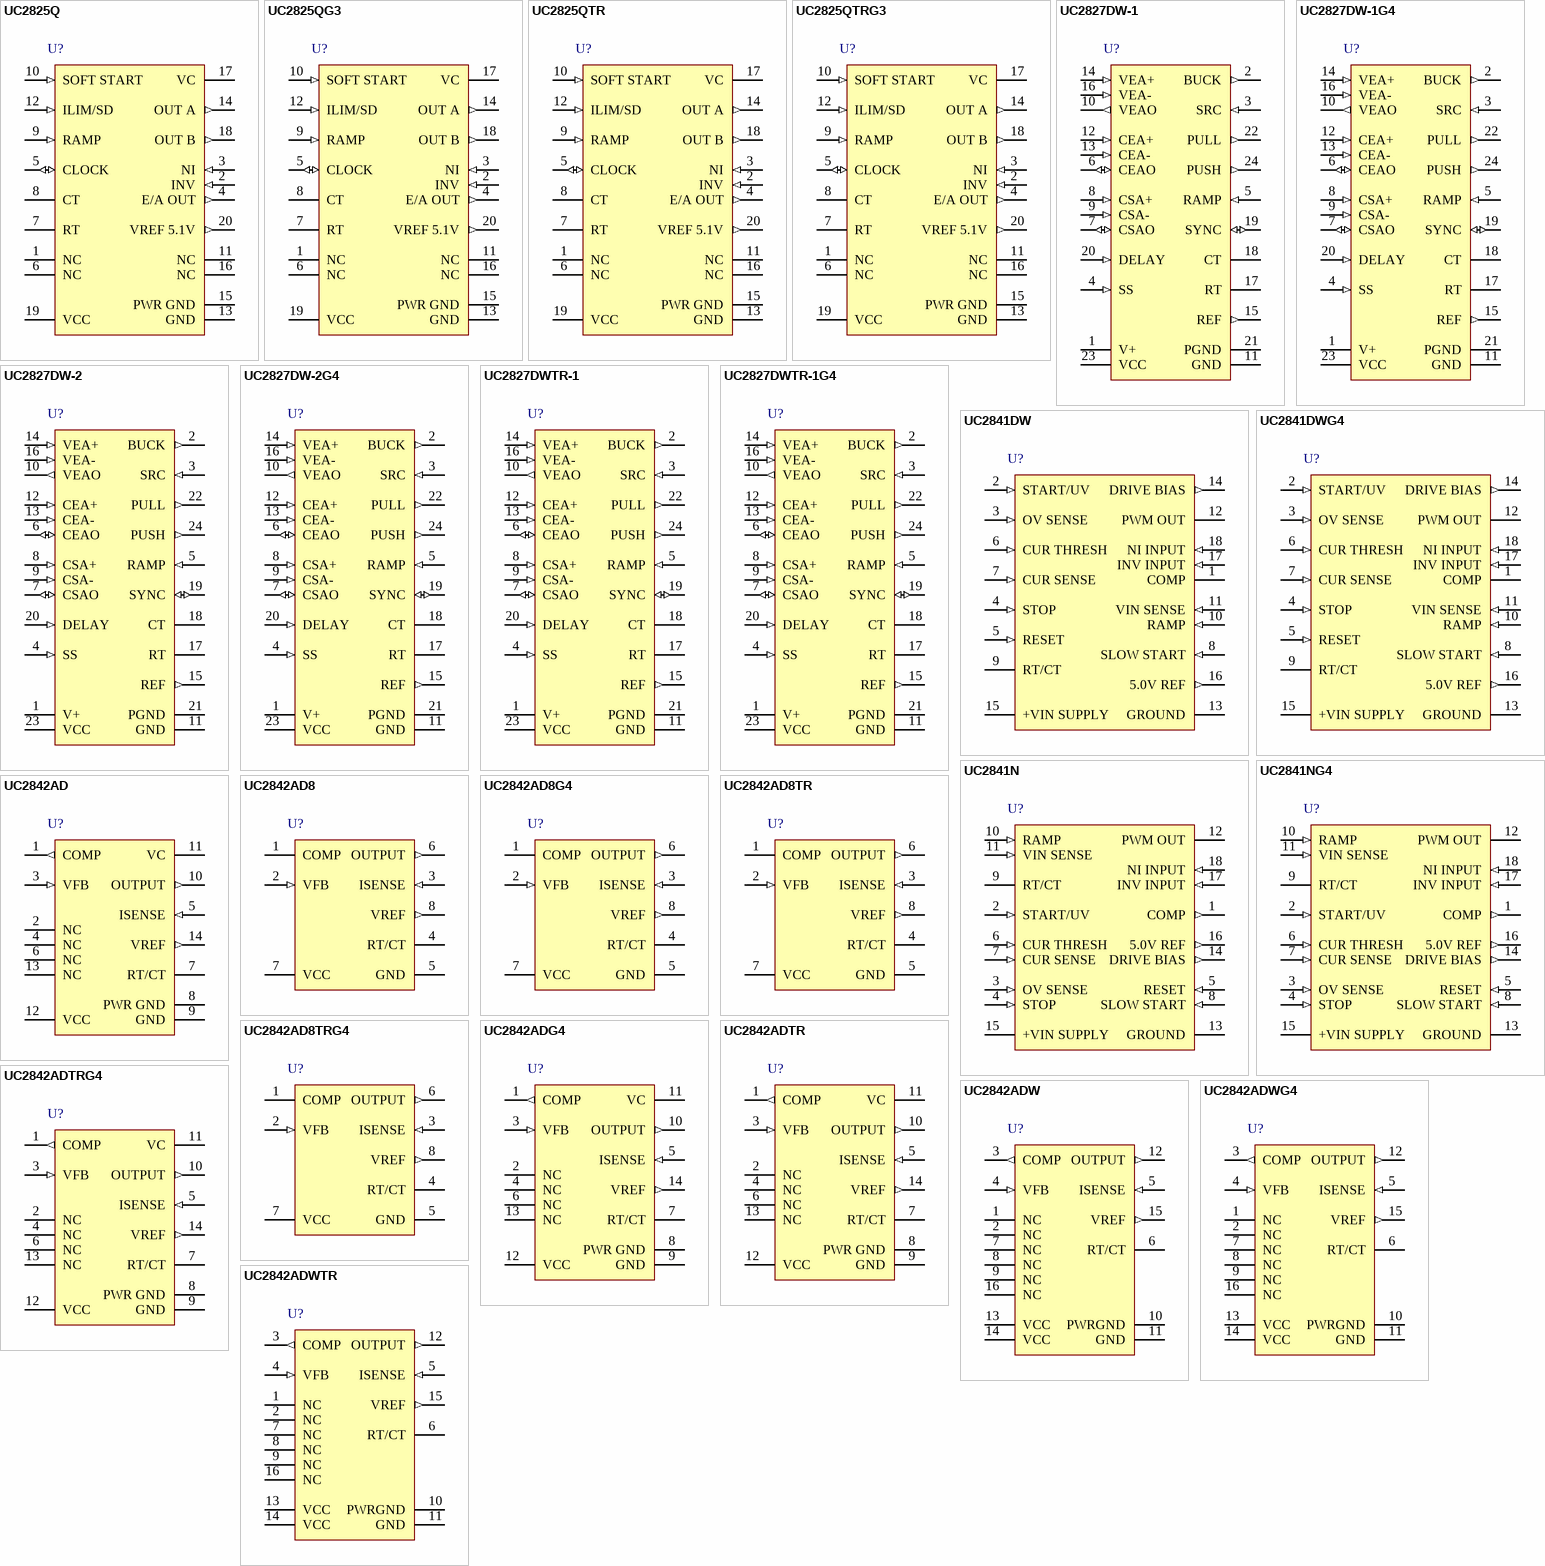
[diagram p20: symbols UC2825Q to UC2842ADWTR]

## UC2825Q
designator U?
High Speed PWM Controller with Current Control, 50 % Duty Cycle, -40 to +85 degC, 20-pin PLCC (FN), Green (RoHS & no Sb/Br); PartNumber: UC2825Q; Manufacturer: Texas Instruments; Duty Cycle(Max)(%): 50; Frequency(Max)(kHz): 1000; Rating: Catalog; Regulated Outputs(#): 2; Topology: Boost, Flyback, Forward, Full-Bridge, Half-Bridge, Push-Pull; UVLO Thresholds On/Off(V): 9.2/8.4; DatasheetVersion: SLUS235A; PackageVersion: revB, Mar-1995; PackageReference: FN20; PackageDescription: 20-Pin Plastic Leaded Chip Carrier, 1.27 mm Pitch; Supplier 1: Digi-Key; Supplier Part Number 1: 296-34713-5-ND; Supplier 2: Newark; Supplier Part Number 2: 77C2914; Supplier 3: Mouser; Supplier Part Number 3: 595-UC2825Q; Control Method: Current; Eco-Plan: Green (RoHS & no Sb/Br); SubFamily: PWM Controller; Mounting Technology: Surface Mount; Code_JEDEC: MS-018; ComponentLink1Description: Datasheet; ComponentLink1URL: http://www.ti.com/general/docs/lit/getliterature.tsp?genericPartNumber=UC2825&fileType=pdf
footprint FN20_N (Leaded Chip Carrier, 20-Leads, Body 9x9mm, Pitch 1.27mm, IPC Medium Density)
footprint FN20_L (Leaded Chip Carrier, 20-Leads, Body 9x9mm, Pitch 1.27mm, IPC High Density)
footprint FN20_M (Leaded Chip Carrier, 20-Leads, Body 9x9mm, Pitch 1.27mm, IPC Low Density)
pins: 1 NC, 2 INV (in), 3 NI (in), 4 E/A OUT (out), 5 CLOCK (io), 6 NC, 7 RT, 8 CT, 9 RAMP (in), 10 SOFT START (in), 11 NC, 12 ILIM/SD (in), 13 GND (power), 14 OUT A (out), 15 PWR GND (power), 16 NC, 17 VC (power), 18 OUT B (out), 19 VCC (power), 20 VREF 5.1V (out)

## UC2825QG3
designator U?
High Speed PWM Controller with Current Control, 50 % Duty Cycle, -40 to +85 degC, 20-pin PLCC (FN), Green (RoHS & no Sb/Br); PartNumber: UC2825QG3; Manufacturer: Texas Instruments; Duty Cycle(Max)(%): 50; Frequency(Max)(kHz): 1000; Rating: Catalog; Regulated Outputs(#): 2; Topology: Boost, Flyback, Forward, Full-Bridge, Half-Bridge, Push-Pull; UVLO Thresholds On/Off(V): 9.2/8.4; DatasheetVersion: SLUS235A; PackageVersion: revB, Mar-1995; PackageReference: FN20; PackageDescription: 20-Pin Plastic Leaded Chip Carrier, 1.27 mm Pitch; Supplier 1: Digi-Key; Supplier Part Number 1: UC2825QG3-ND; Supplier 2: Newark; Supplier Part Number 2: 70K5966; Supplier 3: Mouser; Supplier Part Number 3: 595-UC2825QG3; Control Method: Current; Eco-Plan: Green (RoHS & no Sb/Br); SubFamily: PWM Controller; Mounting Technology: Surface Mount; Code_JEDEC: MS-018; ComponentLink1Description: Datasheet; ComponentLink1URL: http://www.ti.com/general/docs/lit/getliterature.tsp?genericPartNumber=UC2825&fileType=pdf
footprint FN20_N (Leaded Chip Carrier, 20-Leads, Body 9x9mm, Pitch 1.27mm, IPC Medium Density)
footprint FN20_L (Leaded Chip Carrier, 20-Leads, Body 9x9mm, Pitch 1.27mm, IPC High Density)
footprint FN20_M (Leaded Chip Carrier, 20-Leads, Body 9x9mm, Pitch 1.27mm, IPC Low Density)
pins: 1 NC, 2 INV (in), 3 NI (in), 4 E/A OUT (out), 5 CLOCK (io), 6 NC, 7 RT, 8 CT, 9 RAMP (in), 10 SOFT START (in), 11 NC, 12 ILIM/SD (in), 13 GND (power), 14 OUT A (out), 15 PWR GND (power), 16 NC, 17 VC (power), 18 OUT B (out), 19 VCC (power), 20 VREF 5.1V (out)

## UC2825QTR
designator U?
High Speed PWM Controller with Current Control, 50 % Duty Cycle, -40 to +85 degC, 20-pin PLCC (FN), Green (RoHS & no Sb/Br); PartNumber: UC2825QTR; Manufacturer: Texas Instruments; Duty Cycle(Max)(%): 50; Frequency(Max)(kHz): 1000; Rating: Catalog; Regulated Outputs(#): 2; Topology: Boost, Flyback, Forward, Full-Bridge, Half-Bridge, Push-Pull; UVLO Thresholds On/Off(V): 9.2/8.4; DatasheetVersion: SLUS235A; PackageVersion: revB, Mar-1995; PackageReference: FN20; PackageDescription: 20-Pin Plastic Leaded Chip Carrier, 1.27 mm Pitch; Supplier 1: Digi-Key; Supplier Part Number 1: UC2825QTR-ND; Supplier 2: Newark; Supplier Part Number 2: 77C2915; Supplier 3: Mouser; Supplier Part Number 3: 595-UC2825QTR; Control Method: Current; Eco-Plan: Green (RoHS & no Sb/Br); SubFamily: PWM Controller; Mounting Technology: Surface Mount; Code_JEDEC: MS-018; ComponentLink1Description: Datasheet; ComponentLink1URL: http://www.ti.com/general/docs/lit/getliterature.tsp?genericPartNumber=UC2825&fileType=pdf
footprint FN20_N (Leaded Chip Carrier, 20-Leads, Body 9x9mm, Pitch 1.27mm, IPC Medium Density)
footprint FN20_L (Leaded Chip Carrier, 20-Leads, Body 9x9mm, Pitch 1.27mm, IPC High Density)
footprint FN20_M (Leaded Chip Carrier, 20-Leads, Body 9x9mm, Pitch 1.27mm, IPC Low Density)
pins: 1 NC, 2 INV (in), 3 NI (in), 4 E/A OUT (out), 5 CLOCK (io), 6 NC, 7 RT, 8 CT, 9 RAMP (in), 10 SOFT START (in), 11 NC, 12 ILIM/SD (in), 13 GND (power), 14 OUT A (out), 15 PWR GND (power), 16 NC, 17 VC (power), 18 OUT B (out), 19 VCC (power), 20 VREF 5.1V (out)